# Altium schematic symbol library LOGO_GL.Schlib: 1 symbol
Pins are listed as number, name and electrical type; pins without a type are passive.

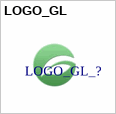
[diagram p0: symbol LOGO_GL]

## LOGO_GL
designator LOGO_GL_?  (value not drawn)  (no BOM)